# Altium footprint library Connector_Samtec_HLE_SMD.PcbLib: 290 footprints (part 18 of 24)
Each footprint in its own frame and in the unit in brackets; x right, y up, seen from the top. Pads: shape width x height; smd on the part's side, far side on the other; paste and mask are expansions set on the pad; w line width, h text height; cw(c..) or ccw(c..) is an arc to the next point about the centre after c.
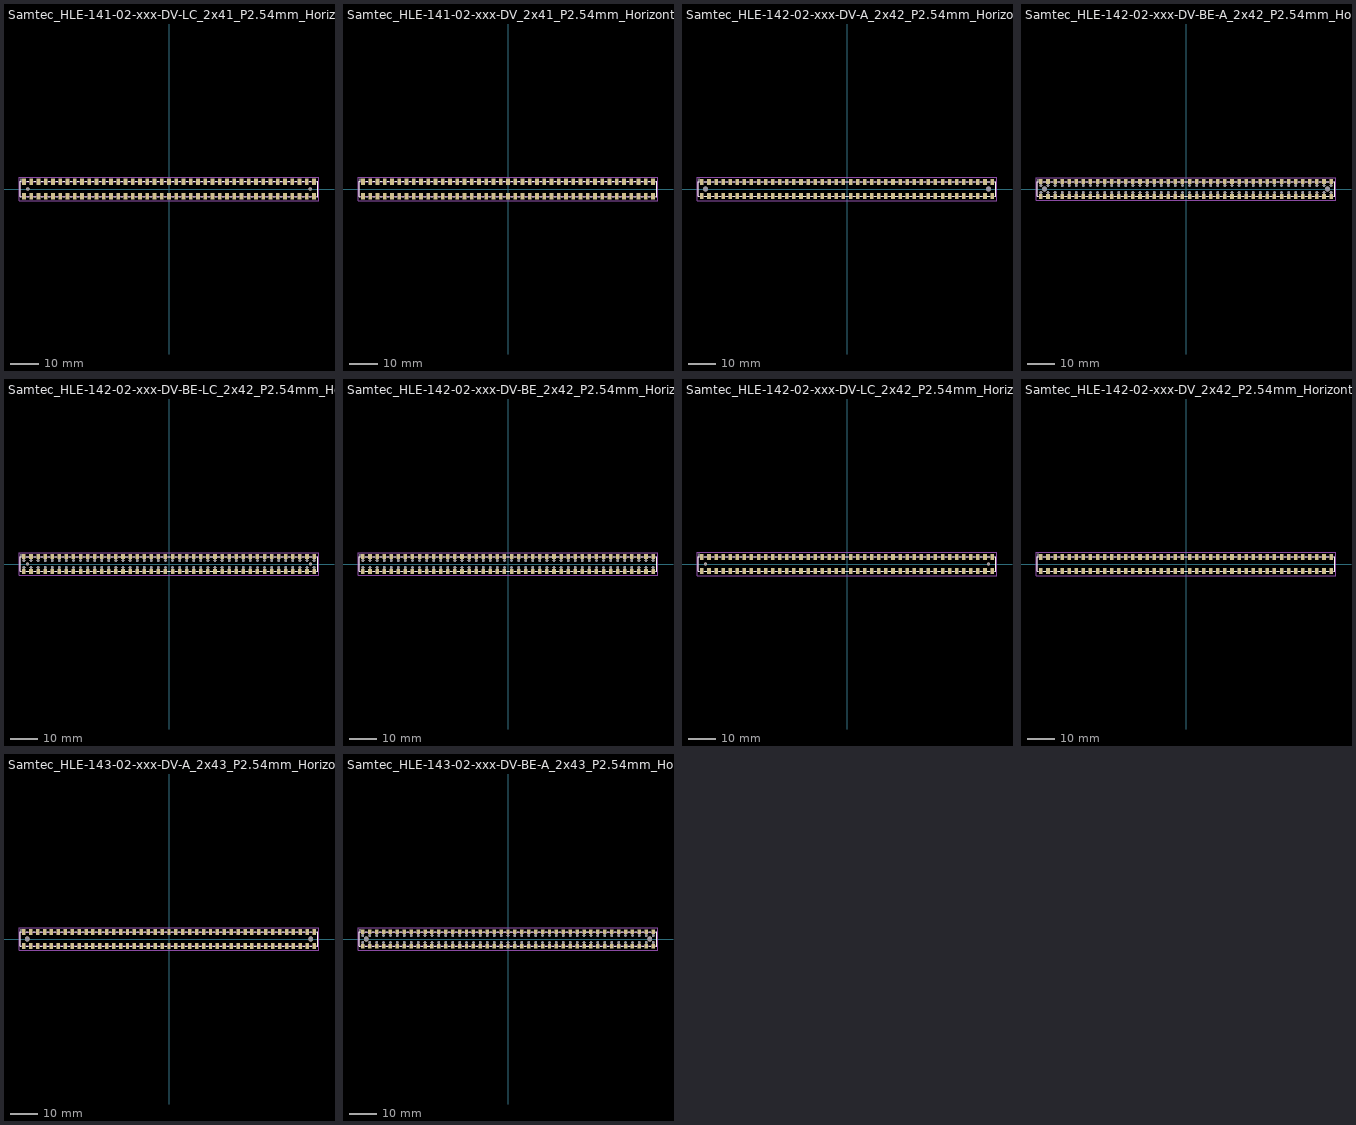
[diagram p17: the footprints below, top view; thin cyan lines are the x and y axes]

## Samtec_HLE-141-02-xxx-DV-LC_2x41_P2.54mm_Horizontal [mm]
pads (84):
  rect 1.27x2.29 smd: 1(-50.8,2.525) 2(-50.8,-2.525) 3(-48.26,2.525) 4(-48.26,-2.525) 5(-45.72,2.525) 6(-45.72,-2.525) 7(-43.18,2.525) 8(-43.18,-2.525) 9(-40.64,2.525) 10(-40.64,-2.525) 11(-38.1,2.525) 12(-38.1,-2.525) 13(-35.56,2.525) 14(-35.56,-2.525) 15(-33.02,2.525) 16(-33.02,-2.525) 17(-30.48,2.525) 18(-30.48,-2.525) 19(-27.94,2.525) 20(-27.94,-2.525) 21(-25.4,2.525) 22(-25.4,-2.525) 23(-22.86,2.525) 24(-22.86,-2.525) 25(-20.32,2.525) 26(-20.32,-2.525) 27(-17.78,2.525) 28(-17.78,-2.525) 29(-15.24,2.525) 30(-15.24,-2.525) 31(-12.7,2.525) 32(-12.7,-2.525) 33(-10.16,2.525) 34(-10.16,-2.525) 35(-7.62,2.525) 36(-7.62,-2.525) 37(-5.08,2.525) 38(-5.08,-2.525) 39(-2.54,2.525) 40(-2.54,-2.525) 41(0,2.525) 42(0,-2.525) 43(2.54,2.525) 44(2.54,-2.525) 45(5.08,2.525) 46(5.08,-2.525) 47(7.62,2.525) 48(7.62,-2.525) 49(10.16,2.525) 50(10.16,-2.525) 51(12.7,2.525) 52(12.7,-2.525) 53(15.24,2.525) 54(15.24,-2.525) 55(17.78,2.525) 56(17.78,-2.525) 57(20.32,2.525) 58(20.32,-2.525) 59(22.86,2.525) 60(22.86,-2.525) 61(25.4,2.525) 62(25.4,-2.525) 63(27.94,2.525) 64(27.94,-2.525) 65(30.48,2.525) 66(30.48,-2.525) 67(33.02,2.525) 68(33.02,-2.525) 69(35.56,2.525) 70(35.56,-2.525) 71(38.1,2.525) 72(38.1,-2.525) 73(40.64,2.525) 74(40.64,-2.525) 75(43.18,2.525) 76(43.18,-2.525) 77(45.72,2.525) 78(45.72,-2.525) 79(48.26,2.525) 80(48.26,-2.525) 81(50.8,2.525) 82(50.8,-2.525)
  round 1.19 hole 1.19: Un1(-49.53,0) Un2(49.53,0)
F.SilkS:
  lines w0.254: -51.695,-2.65 -52.18,-2.65 -52.18,2.65 -51.695,2.65 -51.695,3.67 ; -49.905,-2.65 -49.155,-2.65 ; -49.905,2.65 -49.155,2.65 ; -47.365,-2.65 -46.615,-2.65 ; -47.365,2.65 -46.615,2.65 ; -44.825,-2.65 -44.075,-2.65 ; -44.825,2.65 -44.075,2.65 ; -42.285,-2.65 -41.535,-2.65 ; -42.285,2.65 -41.535,2.65 ; -39.745,-2.65 -38.995,-2.65 ; -39.745,2.65 -38.995,2.65 ; -37.205,-2.65 -36.455,-2.65 ; -37.205,2.65 -36.455,2.65 ; -34.665,-2.65 -33.915,-2.65 ; -34.665,2.65 -33.915,2.65 ; -32.125,-2.65 -31.375,-2.65 ; -32.125,2.65 -31.375,2.65 ; -29.585,-2.65 -28.835,-2.65 ; -29.585,2.65 -28.835,2.65 ; -27.045,-2.65 -26.295,-2.65 ; -27.045,2.65 -26.295,2.65 ; -24.505,-2.65 -23.755,-2.65 ; -24.505,2.65 -23.755,2.65 ; -21.965,-2.65 -21.215,-2.65 ; -21.965,2.65 -21.215,2.65 ; -19.425,-2.65 -18.675,-2.65 ; -19.425,2.65 -18.675,2.65 ; -16.885,-2.65 -16.135,-2.65 ; -16.885,2.65 -16.135,2.65 ; -14.345,-2.65 -13.595,-2.65 ; -14.345,2.65 -13.595,2.65 ; -11.805,-2.65 -11.055,-2.65 ; -11.805,2.65 -11.055,2.65 ; -9.265,-2.65 -8.515,-2.65 ; -9.265,2.65 -8.515,2.65 ; -6.725,-2.65 -5.975,-2.65 ; -6.725,2.65 -5.975,2.65 ; -4.185,-2.65 -3.435,-2.65 ; -4.185,2.65 -3.435,2.65 ; -1.645,-2.65 -0.895,-2.65 ; -1.645,2.65 -0.895,2.65 ; 0.895,-2.65 1.645,-2.65 ; 0.895,2.65 1.645,2.65 ; 3.435,-2.65 4.185,-2.65 ; 3.435,2.65 4.185,2.65 ; 5.975,-2.65 6.725,-2.65 ; 5.975,2.65 6.725,2.65 ; 8.515,-2.65 9.265,-2.65 ; 8.515,2.65 9.265,2.65 ; 11.055,-2.65 11.805,-2.65 ; 11.055,2.65 11.805,2.65 ; 13.595,-2.65 14.345,-2.65 ; 13.595,2.65 14.345,2.65 ; 16.135,-2.65 16.885,-2.65 ; 16.135,2.65 16.885,2.65 ; 18.675,-2.65 19.425,-2.65 ; 18.675,2.65 19.425,2.65 ; 21.215,-2.65 21.965,-2.65 ; 21.215,2.65 21.965,2.65 ; 23.755,-2.65 24.505,-2.65 ; 23.755,2.65 24.505,2.65 ; 26.295,-2.65 27.045,-2.65 ; 26.295,2.65 27.045,2.65 ; 28.835,-2.65 29.585,-2.65 ; 28.835,2.65 29.585,2.65 ; 31.375,-2.65 32.125,-2.65 ; 31.375,2.65 32.125,2.65 ; 33.915,-2.65 34.665,-2.65 ; 33.915,2.65 34.665,2.65 ; 36.455,-2.65 37.205,-2.65 ; 36.455,2.65 37.205,2.65 ; 38.995,-2.65 39.745,-2.65 ; 38.995,2.65 39.745,2.65 ; 41.535,-2.65 42.285,-2.65 ; 41.535,2.65 42.285,2.65 ; 44.075,-2.65 44.825,-2.65 ; 44.075,2.65 44.825,2.65 ; 46.615,-2.65 47.365,-2.65 ; 46.615,2.65 47.365,2.65 ; 49.155,-2.65 49.905,-2.65 ; 49.155,2.65 49.905,2.65 ; 51.695,-2.65 52.18,-2.65 52.18,2.65 51.695,2.65
Top Assembly:
  lines w0.254: -51.3,2.54 -50.8,1.833 -50.3,2.54 ; -52.07,-2.54 52.07,-2.54 52.07,2.54 -52.07,2.54 -52.07,-2.54
  text "'.Designator'" at -4.047,-2.68 h1
Top Courtyard:
  lines w0.254: -52.57,-4.17 52.57,-4.17 52.57,4.17 -52.57,4.17 -52.57,-4.17
Top Designator:
  text ".Designator" at -7.618,-0.508 h1.52

## Samtec_HLE-141-02-xxx-DV_2x41_P2.54mm_Horizontal [mm]
pads (82):
  rect 1.27x2.29 smd: 1(-50.8,2.525) 2(-50.8,-2.525) 3(-48.26,2.525) 4(-48.26,-2.525) 5(-45.72,2.525) 6(-45.72,-2.525) 7(-43.18,2.525) 8(-43.18,-2.525) 9(-40.64,2.525) 10(-40.64,-2.525) 11(-38.1,2.525) 12(-38.1,-2.525) 13(-35.56,2.525) 14(-35.56,-2.525) 15(-33.02,2.525) 16(-33.02,-2.525) 17(-30.48,2.525) 18(-30.48,-2.525) 19(-27.94,2.525) 20(-27.94,-2.525) 21(-25.4,2.525) 22(-25.4,-2.525) 23(-22.86,2.525) 24(-22.86,-2.525) 25(-20.32,2.525) 26(-20.32,-2.525) 27(-17.78,2.525) 28(-17.78,-2.525) 29(-15.24,2.525) 30(-15.24,-2.525) 31(-12.7,2.525) 32(-12.7,-2.525) 33(-10.16,2.525) 34(-10.16,-2.525) 35(-7.62,2.525) 36(-7.62,-2.525) 37(-5.08,2.525) 38(-5.08,-2.525) 39(-2.54,2.525) 40(-2.54,-2.525) 41(0,2.525) 42(0,-2.525) 43(2.54,2.525) 44(2.54,-2.525) 45(5.08,2.525) 46(5.08,-2.525) 47(7.62,2.525) 48(7.62,-2.525) 49(10.16,2.525) 50(10.16,-2.525) 51(12.7,2.525) 52(12.7,-2.525) 53(15.24,2.525) 54(15.24,-2.525) 55(17.78,2.525) 56(17.78,-2.525) 57(20.32,2.525) 58(20.32,-2.525) 59(22.86,2.525) 60(22.86,-2.525) 61(25.4,2.525) 62(25.4,-2.525) 63(27.94,2.525) 64(27.94,-2.525) 65(30.48,2.525) 66(30.48,-2.525) 67(33.02,2.525) 68(33.02,-2.525) 69(35.56,2.525) 70(35.56,-2.525) 71(38.1,2.525) 72(38.1,-2.525) 73(40.64,2.525) 74(40.64,-2.525) 75(43.18,2.525) 76(43.18,-2.525) 77(45.72,2.525) 78(45.72,-2.525) 79(48.26,2.525) 80(48.26,-2.525) 81(50.8,2.525) 82(50.8,-2.525)
F.SilkS:
  lines w0.254: -51.695,-2.65 -52.18,-2.65 -52.18,2.65 -51.695,2.65 -51.695,3.67 ; -49.905,-2.65 -49.155,-2.65 ; -49.905,2.65 -49.155,2.65 ; -47.365,-2.65 -46.615,-2.65 ; -47.365,2.65 -46.615,2.65 ; -44.825,-2.65 -44.075,-2.65 ; -44.825,2.65 -44.075,2.65 ; -42.285,-2.65 -41.535,-2.65 ; -42.285,2.65 -41.535,2.65 ; -39.745,-2.65 -38.995,-2.65 ; -39.745,2.65 -38.995,2.65 ; -37.205,-2.65 -36.455,-2.65 ; -37.205,2.65 -36.455,2.65 ; -34.665,-2.65 -33.915,-2.65 ; -34.665,2.65 -33.915,2.65 ; -32.125,-2.65 -31.375,-2.65 ; -32.125,2.65 -31.375,2.65 ; -29.585,-2.65 -28.835,-2.65 ; -29.585,2.65 -28.835,2.65 ; -27.045,-2.65 -26.295,-2.65 ; -27.045,2.65 -26.295,2.65 ; -24.505,-2.65 -23.755,-2.65 ; -24.505,2.65 -23.755,2.65 ; -21.965,-2.65 -21.215,-2.65 ; -21.965,2.65 -21.215,2.65 ; -19.425,-2.65 -18.675,-2.65 ; -19.425,2.65 -18.675,2.65 ; -16.885,-2.65 -16.135,-2.65 ; -16.885,2.65 -16.135,2.65 ; -14.345,-2.65 -13.595,-2.65 ; -14.345,2.65 -13.595,2.65 ; -11.805,-2.65 -11.055,-2.65 ; -11.805,2.65 -11.055,2.65 ; -9.265,-2.65 -8.515,-2.65 ; -9.265,2.65 -8.515,2.65 ; -6.725,-2.65 -5.975,-2.65 ; -6.725,2.65 -5.975,2.65 ; -4.185,-2.65 -3.435,-2.65 ; -4.185,2.65 -3.435,2.65 ; -1.645,-2.65 -0.895,-2.65 ; -1.645,2.65 -0.895,2.65 ; 0.895,-2.65 1.645,-2.65 ; 0.895,2.65 1.645,2.65 ; 3.435,-2.65 4.185,-2.65 ; 3.435,2.65 4.185,2.65 ; 5.975,-2.65 6.725,-2.65 ; 5.975,2.65 6.725,2.65 ; 8.515,-2.65 9.265,-2.65 ; 8.515,2.65 9.265,2.65 ; 11.055,-2.65 11.805,-2.65 ; 11.055,2.65 11.805,2.65 ; 13.595,-2.65 14.345,-2.65 ; 13.595,2.65 14.345,2.65 ; 16.135,-2.65 16.885,-2.65 ; 16.135,2.65 16.885,2.65 ; 18.675,-2.65 19.425,-2.65 ; 18.675,2.65 19.425,2.65 ; 21.215,-2.65 21.965,-2.65 ; 21.215,2.65 21.965,2.65 ; 23.755,-2.65 24.505,-2.65 ; 23.755,2.65 24.505,2.65 ; 26.295,-2.65 27.045,-2.65 ; 26.295,2.65 27.045,2.65 ; 28.835,-2.65 29.585,-2.65 ; 28.835,2.65 29.585,2.65 ; 31.375,-2.65 32.125,-2.65 ; 31.375,2.65 32.125,2.65 ; 33.915,-2.65 34.665,-2.65 ; 33.915,2.65 34.665,2.65 ; 36.455,-2.65 37.205,-2.65 ; 36.455,2.65 37.205,2.65 ; 38.995,-2.65 39.745,-2.65 ; 38.995,2.65 39.745,2.65 ; 41.535,-2.65 42.285,-2.65 ; 41.535,2.65 42.285,2.65 ; 44.075,-2.65 44.825,-2.65 ; 44.075,2.65 44.825,2.65 ; 46.615,-2.65 47.365,-2.65 ; 46.615,2.65 47.365,2.65 ; 49.155,-2.65 49.905,-2.65 ; 49.155,2.65 49.905,2.65 ; 51.695,-2.65 52.18,-2.65 52.18,2.65 51.695,2.65
Top Assembly:
  lines w0.254: -51.3,2.54 -50.8,1.833 -50.3,2.54 ; -52.07,-2.54 52.07,-2.54 52.07,2.54 -52.07,2.54 -52.07,-2.54
  text "'.Designator'" at -4.047,-2.68 h1
Top Courtyard:
  lines w0.254: -52.57,-4.17 52.57,-4.17 52.57,4.17 -52.57,4.17 -52.57,-4.17
Top Designator:
  text ".Designator" at -7.618,-0.508 h1.52

## Samtec_HLE-142-02-xxx-DV-A_2x42_P2.54mm_Horizontal [mm]
pads (86):
  rect 1.27x2.29 smd: 1(-52.07,2.525) 2(-52.07,-2.525) 3(-49.53,2.525) 4(-49.53,-2.525) 5(-46.99,2.525) 6(-46.99,-2.525) 7(-44.45,2.525) 8(-44.45,-2.525) 9(-41.91,2.525) 10(-41.91,-2.525) 11(-39.37,2.525) 12(-39.37,-2.525) 13(-36.83,2.525) 14(-36.83,-2.525) 15(-34.29,2.525) 16(-34.29,-2.525) 17(-31.75,2.525) 18(-31.75,-2.525) 19(-29.21,2.525) 20(-29.21,-2.525) 21(-26.67,2.525) 22(-26.67,-2.525) 23(-24.13,2.525) 24(-24.13,-2.525) 25(-21.59,2.525) 26(-21.59,-2.525) 27(-19.05,2.525) 28(-19.05,-2.525) 29(-16.51,2.525) 30(-16.51,-2.525) 31(-13.97,2.525) 32(-13.97,-2.525) 33(-11.43,2.525) 34(-11.43,-2.525) 35(-8.89,2.525) 36(-8.89,-2.525) 37(-6.35,2.525) 38(-6.35,-2.525) 39(-3.81,2.525) 40(-3.81,-2.525) 41(-1.27,2.525) 42(-1.27,-2.525) 43(1.27,2.525) 44(1.27,-2.525) 45(3.81,2.525) 46(3.81,-2.525) 47(6.35,2.525) 48(6.35,-2.525) 49(8.89,2.525) 50(8.89,-2.525) 51(11.43,2.525) 52(11.43,-2.525) 53(13.97,2.525) 54(13.97,-2.525) 55(16.51,2.525) 56(16.51,-2.525) 57(19.05,2.525) 58(19.05,-2.525) 59(21.59,2.525) 60(21.59,-2.525) 61(24.13,2.525) 62(24.13,-2.525) 63(26.67,2.525) 64(26.67,-2.525) 65(29.21,2.525) 66(29.21,-2.525) 67(31.75,2.525) 68(31.75,-2.525) 69(34.29,2.525) 70(34.29,-2.525) 71(36.83,2.525) 72(36.83,-2.525) 73(39.37,2.525) 74(39.37,-2.525) 75(41.91,2.525) 76(41.91,-2.525) 77(44.45,2.525) 78(44.45,-2.525) 79(46.99,2.525) 80(46.99,-2.525) 81(49.53,2.525) 82(49.53,-2.525) 83(52.07,2.525) 84(52.07,-2.525)
  round 1.78 hole 1.78: Un1(-50.8,0) Un2(50.8,0)
F.SilkS:
  lines w0.254: -52.965,-2.65 -53.45,-2.65 -53.45,2.65 -52.965,2.65 -52.965,3.67 ; -51.175,-2.65 -50.425,-2.65 ; -51.175,2.65 -50.425,2.65 ; -48.635,-2.65 -47.885,-2.65 ; -48.635,2.65 -47.885,2.65 ; -46.095,-2.65 -45.345,-2.65 ; -46.095,2.65 -45.345,2.65 ; -43.555,-2.65 -42.805,-2.65 ; -43.555,2.65 -42.805,2.65 ; -41.015,-2.65 -40.265,-2.65 ; -41.015,2.65 -40.265,2.65 ; -38.475,-2.65 -37.725,-2.65 ; -38.475,2.65 -37.725,2.65 ; -35.935,-2.65 -35.185,-2.65 ; -35.935,2.65 -35.185,2.65 ; -33.395,-2.65 -32.645,-2.65 ; -33.395,2.65 -32.645,2.65 ; -30.855,-2.65 -30.105,-2.65 ; -30.855,2.65 -30.105,2.65 ; -28.315,-2.65 -27.565,-2.65 ; -28.315,2.65 -27.565,2.65 ; -25.775,-2.65 -25.025,-2.65 ; -25.775,2.65 -25.025,2.65 ; -23.235,-2.65 -22.485,-2.65 ; -23.235,2.65 -22.485,2.65 ; -20.695,-2.65 -19.945,-2.65 ; -20.695,2.65 -19.945,2.65 ; -18.155,-2.65 -17.405,-2.65 ; -18.155,2.65 -17.405,2.65 ; -15.615,-2.65 -14.865,-2.65 ; -15.615,2.65 -14.865,2.65 ; -13.075,-2.65 -12.325,-2.65 ; -13.075,2.65 -12.325,2.65 ; -10.535,-2.65 -9.785,-2.65 ; -10.535,2.65 -9.785,2.65 ; -7.995,-2.65 -7.245,-2.65 ; -7.995,2.65 -7.245,2.65 ; -5.455,-2.65 -4.705,-2.65 ; -5.455,2.65 -4.705,2.65 ; -2.915,-2.65 -2.165,-2.65 ; -2.915,2.65 -2.165,2.65 ; -0.375,-2.65 0.375,-2.65 ; -0.375,2.65 0.375,2.65 ; 2.165,-2.65 2.915,-2.65 ; 2.165,2.65 2.915,2.65 ; 4.705,-2.65 5.455,-2.65 ; 4.705,2.65 5.455,2.65 ; 7.245,-2.65 7.995,-2.65 ; 7.245,2.65 7.995,2.65 ; 9.785,-2.65 10.535,-2.65 ; 9.785,2.65 10.535,2.65 ; 12.325,-2.65 13.075,-2.65 ; 12.325,2.65 13.075,2.65 ; 14.865,-2.65 15.615,-2.65 ; 14.865,2.65 15.615,2.65 ; 17.405,-2.65 18.155,-2.65 ; 17.405,2.65 18.155,2.65 ; 19.945,-2.65 20.695,-2.65 ; 19.945,2.65 20.695,2.65 ; 22.485,-2.65 23.235,-2.65 ; 22.485,2.65 23.235,2.65 ; 25.025,-2.65 25.775,-2.65 ; 25.025,2.65 25.775,2.65 ; 27.565,-2.65 28.315,-2.65 ; 27.565,2.65 28.315,2.65 ; 30.105,-2.65 30.855,-2.65 ; 30.105,2.65 30.855,2.65 ; 32.645,-2.65 33.395,-2.65 ; 32.645,2.65 33.395,2.65 ; 35.185,-2.65 35.935,-2.65 ; 35.185,2.65 35.935,2.65 ; 37.725,-2.65 38.475,-2.65 ; 37.725,2.65 38.475,2.65 ; 40.265,-2.65 41.015,-2.65 ; 40.265,2.65 41.015,2.65 ; 42.805,-2.65 43.555,-2.65 ; 42.805,2.65 43.555,2.65 ; 45.345,-2.65 46.095,-2.65 ; 45.345,2.65 46.095,2.65 ; 47.885,-2.65 48.635,-2.65 ; 47.885,2.65 48.635,2.65 ; 50.425,-2.65 51.175,-2.65 ; 50.425,2.65 51.175,2.65 ; 52.965,-2.65 53.45,-2.65 53.45,2.65 52.965,2.65
Top Assembly:
  lines w0.254: -52.57,2.54 -52.07,1.833 -51.57,2.54 ; -53.34,-2.54 53.34,-2.54 53.34,2.54 -53.34,2.54 -53.34,-2.54
  text "'.Designator'" at -4.047,-2.68 h1
Top Courtyard:
  lines w0.254: -53.84,-4.17 53.84,-4.17 53.84,4.17 -53.84,4.17 -53.84,-4.17
Top Designator:
  text ".Designator" at -7.618,-0.508 h1.52

## Samtec_HLE-142-02-xxx-DV-BE-A_2x42_P2.54mm_Horizontal [mm]
pads (170):
  rect 1.27x1.68 smd: 1(-52.07,2.72) 2(-52.07,-2.72) 3(-49.53,2.72) 4(-49.53,-2.72) 5(-46.99,2.72) 6(-46.99,-2.72) 7(-44.45,2.72) 8(-44.45,-2.72) 9(-41.91,2.72) 10(-41.91,-2.72) 11(-39.37,2.72) 12(-39.37,-2.72) 13(-36.83,2.72) 14(-36.83,-2.72) 15(-34.29,2.72) 16(-34.29,-2.72) 17(-31.75,2.72) 18(-31.75,-2.72) 19(-29.21,2.72) 20(-29.21,-2.72) 21(-26.67,2.72) 22(-26.67,-2.72) 23(-24.13,2.72) 24(-24.13,-2.72) 25(-21.59,2.72) 26(-21.59,-2.72) 27(-19.05,2.72) 28(-19.05,-2.72) 29(-16.51,2.72) 30(-16.51,-2.72) 31(-13.97,2.72) 32(-13.97,-2.72) 33(-11.43,2.72) 34(-11.43,-2.72) 35(-8.89,2.72) 36(-8.89,-2.72) 37(-6.35,2.72) 38(-6.35,-2.72) 39(-3.81,2.72) 40(-3.81,-2.72) 41(-1.27,2.72) 42(-1.27,-2.72) 43(1.27,2.72) 44(1.27,-2.72) 45(3.81,2.72) 46(3.81,-2.72) 47(6.35,2.72) 48(6.35,-2.72) 49(8.89,2.72) 50(8.89,-2.72) 51(11.43,2.72) 52(11.43,-2.72) 53(13.97,2.72) 54(13.97,-2.72) 55(16.51,2.72) 56(16.51,-2.72) 57(19.05,2.72) 58(19.05,-2.72) 59(21.59,2.72) 60(21.59,-2.72) 61(24.13,2.72) 62(24.13,-2.72) 63(26.67,2.72) 64(26.67,-2.72) 65(29.21,2.72) 66(29.21,-2.72) 67(31.75,2.72) 68(31.75,-2.72) 69(34.29,2.72) 70(34.29,-2.72) 71(36.83,2.72) 72(36.83,-2.72) 73(39.37,2.72) 74(39.37,-2.72) 75(41.91,2.72) 76(41.91,-2.72) 77(44.45,2.72) 78(44.45,-2.72) 79(46.99,2.72) 80(46.99,-2.72) 81(49.53,2.72) 82(49.53,-2.72) 83(52.07,2.72) 84(52.07,-2.72)
  round 0.97 hole 0.97: Un1(-52.07,1.27) Un2(-52.07,-1.27) Un4(-49.53,1.27) Un5(-49.53,-1.27) Un6(-46.99,1.27) Un7(-46.99,-1.27) Un8(-44.45,1.27) Un9(-44.45,-1.27) Un10(-41.91,1.27) Un11(-41.91,-1.27) Un12(-39.37,1.27) Un13(-39.37,-1.27) Un14(-36.83,1.27) Un15(-36.83,-1.27) Un16(-34.29,1.27) Un17(-34.29,-1.27) Un18(-31.75,1.27) Un19(-31.75,-1.27) Un20(-29.21,1.27) Un21(-29.21,-1.27) Un22(-26.67,1.27) Un23(-26.67,-1.27) Un24(-24.13,1.27) Un25(-24.13,-1.27) Un26(-21.59,1.27) Un27(-21.59,-1.27) Un28(-19.05,1.27) Un29(-19.05,-1.27) Un30(-16.51,1.27) Un31(-16.51,-1.27) Un32(-13.97,1.27) Un33(-13.97,-1.27) Un34(-11.43,1.27) Un35(-11.43,-1.27) Un36(-8.89,1.27) Un37(-8.89,-1.27) Un38(-6.35,1.27) Un39(-6.35,-1.27) Un40(-3.81,1.27) Un41(-3.81,-1.27) Un42(-1.27,1.27) Un43(-1.27,-1.27) Un44(1.27,1.27) Un45(1.27,-1.27) Un46(3.81,1.27) Un47(3.81,-1.27) Un48(6.35,1.27) Un49(6.35,-1.27) Un50(8.89,1.27) Un51(8.89,-1.27) Un52(11.43,1.27) Un53(11.43,-1.27) Un54(13.97,1.27) Un55(13.97,-1.27) Un56(16.51,1.27) Un57(16.51,-1.27) Un58(19.05,1.27) Un59(19.05,-1.27) Un60(21.59,1.27) Un61(21.59,-1.27) Un62(24.13,1.27) Un63(24.13,-1.27) Un64(26.67,1.27) Un65(26.67,-1.27) Un66(29.21,1.27) Un67(29.21,-1.27) Un68(31.75,1.27) Un69(31.75,-1.27) Un70(34.29,1.27) Un71(34.29,-1.27) Un72(36.83,1.27) Un73(36.83,-1.27) Un74(39.37,1.27) Un75(39.37,-1.27) Un76(41.91,1.27) Un77(41.91,-1.27) Un78(44.45,1.27) Un79(44.45,-1.27) Un80(46.99,1.27) Un81(46.99,-1.27) Un82(49.53,1.27) Un83(49.53,-1.27) Un85(52.07,1.27) Un86(52.07,-1.27)
  round 1.78 hole 1.78: Un3(-50.8,0) Un84(50.8,0)
F.SilkS:
  lines w0.254: -52.965,-2.65 -53.45,-2.65 -53.45,2.65 -52.965,2.65 -52.965,3.56 ; -51.175,-2.65 -50.425,-2.65 ; -51.175,2.65 -50.425,2.65 ; -48.635,-2.65 -47.885,-2.65 ; -48.635,2.65 -47.885,2.65 ; -46.095,-2.65 -45.345,-2.65 ; -46.095,2.65 -45.345,2.65 ; -43.555,-2.65 -42.805,-2.65 ; -43.555,2.65 -42.805,2.65 ; -41.015,-2.65 -40.265,-2.65 ; -41.015,2.65 -40.265,2.65 ; -38.475,-2.65 -37.725,-2.65 ; -38.475,2.65 -37.725,2.65 ; -35.935,-2.65 -35.185,-2.65 ; -35.935,2.65 -35.185,2.65 ; -33.395,-2.65 -32.645,-2.65 ; -33.395,2.65 -32.645,2.65 ; -30.855,-2.65 -30.105,-2.65 ; -30.855,2.65 -30.105,2.65 ; -28.315,-2.65 -27.565,-2.65 ; -28.315,2.65 -27.565,2.65 ; -25.775,-2.65 -25.025,-2.65 ; -25.775,2.65 -25.025,2.65 ; -23.235,-2.65 -22.485,-2.65 ; -23.235,2.65 -22.485,2.65 ; -20.695,-2.65 -19.945,-2.65 ; -20.695,2.65 -19.945,2.65 ; -18.155,-2.65 -17.405,-2.65 ; -18.155,2.65 -17.405,2.65 ; -15.615,-2.65 -14.865,-2.65 ; -15.615,2.65 -14.865,2.65 ; -13.075,-2.65 -12.325,-2.65 ; -13.075,2.65 -12.325,2.65 ; -10.535,-2.65 -9.785,-2.65 ; -10.535,2.65 -9.785,2.65 ; -7.995,-2.65 -7.245,-2.65 ; -7.995,2.65 -7.245,2.65 ; -5.455,-2.65 -4.705,-2.65 ; -5.455,2.65 -4.705,2.65 ; -2.915,-2.65 -2.165,-2.65 ; -2.915,2.65 -2.165,2.65 ; -0.375,-2.65 0.375,-2.65 ; -0.375,2.65 0.375,2.65 ; 2.165,-2.65 2.915,-2.65 ; 2.165,2.65 2.915,2.65 ; 4.705,-2.65 5.455,-2.65 ; 4.705,2.65 5.455,2.65 ; 7.245,-2.65 7.995,-2.65 ; 7.245,2.65 7.995,2.65 ; 9.785,-2.65 10.535,-2.65 ; 9.785,2.65 10.535,2.65 ; 12.325,-2.65 13.075,-2.65 ; 12.325,2.65 13.075,2.65 ; 14.865,-2.65 15.615,-2.65 ; 14.865,2.65 15.615,2.65 ; 17.405,-2.65 18.155,-2.65 ; 17.405,2.65 18.155,2.65 ; 19.945,-2.65 20.695,-2.65 ; 19.945,2.65 20.695,2.65 ; 22.485,-2.65 23.235,-2.65 ; 22.485,2.65 23.235,2.65 ; 25.025,-2.65 25.775,-2.65 ; 25.025,2.65 25.775,2.65 ; 27.565,-2.65 28.315,-2.65 ; 27.565,2.65 28.315,2.65 ; 30.105,-2.65 30.855,-2.65 ; 30.105,2.65 30.855,2.65 ; 32.645,-2.65 33.395,-2.65 ; 32.645,2.65 33.395,2.65 ; 35.185,-2.65 35.935,-2.65 ; 35.185,2.65 35.935,2.65 ; 37.725,-2.65 38.475,-2.65 ; 37.725,2.65 38.475,2.65 ; 40.265,-2.65 41.015,-2.65 ; 40.265,2.65 41.015,2.65 ; 42.805,-2.65 43.555,-2.65 ; 42.805,2.65 43.555,2.65 ; 45.345,-2.65 46.095,-2.65 ; 45.345,2.65 46.095,2.65 ; 47.885,-2.65 48.635,-2.65 ; 47.885,2.65 48.635,2.65 ; 50.425,-2.65 51.175,-2.65 ; 50.425,2.65 51.175,2.65 ; 52.965,-2.65 53.45,-2.65 53.45,2.65 52.965,2.65
Top Assembly:
  lines w0.254: -52.57,2.54 -52.07,1.833 -51.57,2.54 ; -53.34,-2.54 53.34,-2.54 53.34,2.54 -53.34,2.54 -53.34,-2.54
  text "'.Designator'" at -4.047,-2.68 h1
Top Courtyard:
  lines w0.254: -53.84,-4.07 53.84,-4.07 53.84,4.07 -53.84,4.07 -53.84,-4.07
Top Designator:
  text ".Designator" at -7.618,-0.508 h1.52

## Samtec_HLE-142-02-xxx-DV-BE-LC_2x42_P2.54mm_Horizontal [mm]
pads (170):
  rect 1.27x1.68 smd: 1(-52.07,2.72) 2(-52.07,-2.72) 3(-49.53,2.72) 4(-49.53,-2.72) 5(-46.99,2.72) 6(-46.99,-2.72) 7(-44.45,2.72) 8(-44.45,-2.72) 9(-41.91,2.72) 10(-41.91,-2.72) 11(-39.37,2.72) 12(-39.37,-2.72) 13(-36.83,2.72) 14(-36.83,-2.72) 15(-34.29,2.72) 16(-34.29,-2.72) 17(-31.75,2.72) 18(-31.75,-2.72) 19(-29.21,2.72) 20(-29.21,-2.72) 21(-26.67,2.72) 22(-26.67,-2.72) 23(-24.13,2.72) 24(-24.13,-2.72) 25(-21.59,2.72) 26(-21.59,-2.72) 27(-19.05,2.72) 28(-19.05,-2.72) 29(-16.51,2.72) 30(-16.51,-2.72) 31(-13.97,2.72) 32(-13.97,-2.72) 33(-11.43,2.72) 34(-11.43,-2.72) 35(-8.89,2.72) 36(-8.89,-2.72) 37(-6.35,2.72) 38(-6.35,-2.72) 39(-3.81,2.72) 40(-3.81,-2.72) 41(-1.27,2.72) 42(-1.27,-2.72) 43(1.27,2.72) 44(1.27,-2.72) 45(3.81,2.72) 46(3.81,-2.72) 47(6.35,2.72) 48(6.35,-2.72) 49(8.89,2.72) 50(8.89,-2.72) 51(11.43,2.72) 52(11.43,-2.72) 53(13.97,2.72) 54(13.97,-2.72) 55(16.51,2.72) 56(16.51,-2.72) 57(19.05,2.72) 58(19.05,-2.72) 59(21.59,2.72) 60(21.59,-2.72) 61(24.13,2.72) 62(24.13,-2.72) 63(26.67,2.72) 64(26.67,-2.72) 65(29.21,2.72) 66(29.21,-2.72) 67(31.75,2.72) 68(31.75,-2.72) 69(34.29,2.72) 70(34.29,-2.72) 71(36.83,2.72) 72(36.83,-2.72) 73(39.37,2.72) 74(39.37,-2.72) 75(41.91,2.72) 76(41.91,-2.72) 77(44.45,2.72) 78(44.45,-2.72) 79(46.99,2.72) 80(46.99,-2.72) 81(49.53,2.72) 82(49.53,-2.72) 83(52.07,2.72) 84(52.07,-2.72)
  round 0.97 hole 0.97: Un1(-52.07,1.27) Un2(-52.07,-1.27) Un4(-49.53,1.27) Un5(-49.53,-1.27) Un6(-46.99,1.27) Un7(-46.99,-1.27) Un8(-44.45,1.27) Un9(-44.45,-1.27) Un10(-41.91,1.27) Un11(-41.91,-1.27) Un12(-39.37,1.27) Un13(-39.37,-1.27) Un14(-36.83,1.27) Un15(-36.83,-1.27) Un16(-34.29,1.27) Un17(-34.29,-1.27) Un18(-31.75,1.27) Un19(-31.75,-1.27) Un20(-29.21,1.27) Un21(-29.21,-1.27) Un22(-26.67,1.27) Un23(-26.67,-1.27) Un24(-24.13,1.27) Un25(-24.13,-1.27) Un26(-21.59,1.27) Un27(-21.59,-1.27) Un28(-19.05,1.27) Un29(-19.05,-1.27) Un30(-16.51,1.27) Un31(-16.51,-1.27) Un32(-13.97,1.27) Un33(-13.97,-1.27) Un34(-11.43,1.27) Un35(-11.43,-1.27) Un36(-8.89,1.27) Un37(-8.89,-1.27) Un38(-6.35,1.27) Un39(-6.35,-1.27) Un40(-3.81,1.27) Un41(-3.81,-1.27) Un42(-1.27,1.27) Un43(-1.27,-1.27) Un44(1.27,1.27) Un45(1.27,-1.27) Un46(3.81,1.27) Un47(3.81,-1.27) Un48(6.35,1.27) Un49(6.35,-1.27) Un50(8.89,1.27) Un51(8.89,-1.27) Un52(11.43,1.27) Un53(11.43,-1.27) Un54(13.97,1.27) Un55(13.97,-1.27) Un56(16.51,1.27) Un57(16.51,-1.27) Un58(19.05,1.27) Un59(19.05,-1.27) Un60(21.59,1.27) Un61(21.59,-1.27) Un62(24.13,1.27) Un63(24.13,-1.27) Un64(26.67,1.27) Un65(26.67,-1.27) Un66(29.21,1.27) Un67(29.21,-1.27) Un68(31.75,1.27) Un69(31.75,-1.27) Un70(34.29,1.27) Un71(34.29,-1.27) Un72(36.83,1.27) Un73(36.83,-1.27) Un74(39.37,1.27) Un75(39.37,-1.27) Un76(41.91,1.27) Un77(41.91,-1.27) Un78(44.45,1.27) Un79(44.45,-1.27) Un80(46.99,1.27) Un81(46.99,-1.27) Un82(49.53,1.27) Un83(49.53,-1.27) Un85(52.07,1.27) Un86(52.07,-1.27)
  round 1.19 hole 1.19: Un3(-50.8,0) Un84(50.8,0)
F.SilkS:
  lines w0.254: -52.965,-2.65 -53.45,-2.65 -53.45,2.65 -52.965,2.65 -52.965,3.56 ; -51.175,-2.65 -50.425,-2.65 ; -51.175,2.65 -50.425,2.65 ; -48.635,-2.65 -47.885,-2.65 ; -48.635,2.65 -47.885,2.65 ; -46.095,-2.65 -45.345,-2.65 ; -46.095,2.65 -45.345,2.65 ; -43.555,-2.65 -42.805,-2.65 ; -43.555,2.65 -42.805,2.65 ; -41.015,-2.65 -40.265,-2.65 ; -41.015,2.65 -40.265,2.65 ; -38.475,-2.65 -37.725,-2.65 ; -38.475,2.65 -37.725,2.65 ; -35.935,-2.65 -35.185,-2.65 ; -35.935,2.65 -35.185,2.65 ; -33.395,-2.65 -32.645,-2.65 ; -33.395,2.65 -32.645,2.65 ; -30.855,-2.65 -30.105,-2.65 ; -30.855,2.65 -30.105,2.65 ; -28.315,-2.65 -27.565,-2.65 ; -28.315,2.65 -27.565,2.65 ; -25.775,-2.65 -25.025,-2.65 ; -25.775,2.65 -25.025,2.65 ; -23.235,-2.65 -22.485,-2.65 ; -23.235,2.65 -22.485,2.65 ; -20.695,-2.65 -19.945,-2.65 ; -20.695,2.65 -19.945,2.65 ; -18.155,-2.65 -17.405,-2.65 ; -18.155,2.65 -17.405,2.65 ; -15.615,-2.65 -14.865,-2.65 ; -15.615,2.65 -14.865,2.65 ; -13.075,-2.65 -12.325,-2.65 ; -13.075,2.65 -12.325,2.65 ; -10.535,-2.65 -9.785,-2.65 ; -10.535,2.65 -9.785,2.65 ; -7.995,-2.65 -7.245,-2.65 ; -7.995,2.65 -7.245,2.65 ; -5.455,-2.65 -4.705,-2.65 ; -5.455,2.65 -4.705,2.65 ; -2.915,-2.65 -2.165,-2.65 ; -2.915,2.65 -2.165,2.65 ; -0.375,-2.65 0.375,-2.65 ; -0.375,2.65 0.375,2.65 ; 2.165,-2.65 2.915,-2.65 ; 2.165,2.65 2.915,2.65 ; 4.705,-2.65 5.455,-2.65 ; 4.705,2.65 5.455,2.65 ; 7.245,-2.65 7.995,-2.65 ; 7.245,2.65 7.995,2.65 ; 9.785,-2.65 10.535,-2.65 ; 9.785,2.65 10.535,2.65 ; 12.325,-2.65 13.075,-2.65 ; 12.325,2.65 13.075,2.65 ; 14.865,-2.65 15.615,-2.65 ; 14.865,2.65 15.615,2.65 ; 17.405,-2.65 18.155,-2.65 ; 17.405,2.65 18.155,2.65 ; 19.945,-2.65 20.695,-2.65 ; 19.945,2.65 20.695,2.65 ; 22.485,-2.65 23.235,-2.65 ; 22.485,2.65 23.235,2.65 ; 25.025,-2.65 25.775,-2.65 ; 25.025,2.65 25.775,2.65 ; 27.565,-2.65 28.315,-2.65 ; 27.565,2.65 28.315,2.65 ; 30.105,-2.65 30.855,-2.65 ; 30.105,2.65 30.855,2.65 ; 32.645,-2.65 33.395,-2.65 ; 32.645,2.65 33.395,2.65 ; 35.185,-2.65 35.935,-2.65 ; 35.185,2.65 35.935,2.65 ; 37.725,-2.65 38.475,-2.65 ; 37.725,2.65 38.475,2.65 ; 40.265,-2.65 41.015,-2.65 ; 40.265,2.65 41.015,2.65 ; 42.805,-2.65 43.555,-2.65 ; 42.805,2.65 43.555,2.65 ; 45.345,-2.65 46.095,-2.65 ; 45.345,2.65 46.095,2.65 ; 47.885,-2.65 48.635,-2.65 ; 47.885,2.65 48.635,2.65 ; 50.425,-2.65 51.175,-2.65 ; 50.425,2.65 51.175,2.65 ; 52.965,-2.65 53.45,-2.65 53.45,2.65 52.965,2.65
Top Assembly:
  lines w0.254: -52.57,2.54 -52.07,1.833 -51.57,2.54 ; -53.34,-2.54 53.34,-2.54 53.34,2.54 -53.34,2.54 -53.34,-2.54
  text "'.Designator'" at -4.047,-2.68 h1
Top Courtyard:
  lines w0.254: -53.84,-4.07 53.84,-4.07 53.84,4.07 -53.84,4.07 -53.84,-4.07
Top Designator:
  text ".Designator" at -7.618,-0.508 h1.52

## Samtec_HLE-142-02-xxx-DV-BE_2x42_P2.54mm_Horizontal [mm]
pads (168):
  rect 1.27x1.68 smd: 1(-52.07,2.72) 2(-52.07,-2.72) 3(-49.53,2.72) 4(-49.53,-2.72) 5(-46.99,2.72) 6(-46.99,-2.72) 7(-44.45,2.72) 8(-44.45,-2.72) 9(-41.91,2.72) 10(-41.91,-2.72) 11(-39.37,2.72) 12(-39.37,-2.72) 13(-36.83,2.72) 14(-36.83,-2.72) 15(-34.29,2.72) 16(-34.29,-2.72) 17(-31.75,2.72) 18(-31.75,-2.72) 19(-29.21,2.72) 20(-29.21,-2.72) 21(-26.67,2.72) 22(-26.67,-2.72) 23(-24.13,2.72) 24(-24.13,-2.72) 25(-21.59,2.72) 26(-21.59,-2.72) 27(-19.05,2.72) 28(-19.05,-2.72) 29(-16.51,2.72) 30(-16.51,-2.72) 31(-13.97,2.72) 32(-13.97,-2.72) 33(-11.43,2.72) 34(-11.43,-2.72) 35(-8.89,2.72) 36(-8.89,-2.72) 37(-6.35,2.72) 38(-6.35,-2.72) 39(-3.81,2.72) 40(-3.81,-2.72) 41(-1.27,2.72) 42(-1.27,-2.72) 43(1.27,2.72) 44(1.27,-2.72) 45(3.81,2.72) 46(3.81,-2.72) 47(6.35,2.72) 48(6.35,-2.72) 49(8.89,2.72) 50(8.89,-2.72) 51(11.43,2.72) 52(11.43,-2.72) 53(13.97,2.72) 54(13.97,-2.72) 55(16.51,2.72) 56(16.51,-2.72) 57(19.05,2.72) 58(19.05,-2.72) 59(21.59,2.72) 60(21.59,-2.72) 61(24.13,2.72) 62(24.13,-2.72) 63(26.67,2.72) 64(26.67,-2.72) 65(29.21,2.72) 66(29.21,-2.72) 67(31.75,2.72) 68(31.75,-2.72) 69(34.29,2.72) 70(34.29,-2.72) 71(36.83,2.72) 72(36.83,-2.72) 73(39.37,2.72) 74(39.37,-2.72) 75(41.91,2.72) 76(41.91,-2.72) 77(44.45,2.72) 78(44.45,-2.72) 79(46.99,2.72) 80(46.99,-2.72) 81(49.53,2.72) 82(49.53,-2.72) 83(52.07,2.72) 84(52.07,-2.72)
  round 0.97 hole 0.97: Un1(-52.07,1.27) Un2(-52.07,-1.27) Un3(-49.53,1.27) Un4(-49.53,-1.27) Un5(-46.99,1.27) Un6(-46.99,-1.27) Un7(-44.45,1.27) Un8(-44.45,-1.27) Un9(-41.91,1.27) Un10(-41.91,-1.27) Un11(-39.37,1.27) Un12(-39.37,-1.27) Un13(-36.83,1.27) Un14(-36.83,-1.27) Un15(-34.29,1.27) Un16(-34.29,-1.27) Un17(-31.75,1.27) Un18(-31.75,-1.27) Un19(-29.21,1.27) Un20(-29.21,-1.27) Un21(-26.67,1.27) Un22(-26.67,-1.27) Un23(-24.13,1.27) Un24(-24.13,-1.27) Un25(-21.59,1.27) Un26(-21.59,-1.27) Un27(-19.05,1.27) Un28(-19.05,-1.27) Un29(-16.51,1.27) Un30(-16.51,-1.27) Un31(-13.97,1.27) Un32(-13.97,-1.27) Un33(-11.43,1.27) Un34(-11.43,-1.27) Un35(-8.89,1.27) Un36(-8.89,-1.27) Un37(-6.35,1.27) Un38(-6.35,-1.27) Un39(-3.81,1.27) Un40(-3.81,-1.27) Un41(-1.27,1.27) Un42(-1.27,-1.27) Un43(1.27,1.27) Un44(1.27,-1.27) Un45(3.81,1.27) Un46(3.81,-1.27) Un47(6.35,1.27) Un48(6.35,-1.27) Un49(8.89,1.27) Un50(8.89,-1.27) Un51(11.43,1.27) Un52(11.43,-1.27) Un53(13.97,1.27) Un54(13.97,-1.27) Un55(16.51,1.27) Un56(16.51,-1.27) Un57(19.05,1.27) Un58(19.05,-1.27) Un59(21.59,1.27) Un60(21.59,-1.27) Un61(24.13,1.27) Un62(24.13,-1.27) Un63(26.67,1.27) Un64(26.67,-1.27) Un65(29.21,1.27) Un66(29.21,-1.27) Un67(31.75,1.27) Un68(31.75,-1.27) Un69(34.29,1.27) Un70(34.29,-1.27) Un71(36.83,1.27) Un72(36.83,-1.27) Un73(39.37,1.27) Un74(39.37,-1.27) Un75(41.91,1.27) Un76(41.91,-1.27) Un77(44.45,1.27) Un78(44.45,-1.27) Un79(46.99,1.27) Un80(46.99,-1.27) Un81(49.53,1.27) Un82(49.53,-1.27) Un83(52.07,1.27) Un84(52.07,-1.27)
F.SilkS:
  lines w0.254: -52.965,-2.65 -53.45,-2.65 -53.45,2.65 -52.965,2.65 -52.965,3.56 ; -51.175,-2.65 -50.425,-2.65 ; -51.175,2.65 -50.425,2.65 ; -48.635,-2.65 -47.885,-2.65 ; -48.635,2.65 -47.885,2.65 ; -46.095,-2.65 -45.345,-2.65 ; -46.095,2.65 -45.345,2.65 ; -43.555,-2.65 -42.805,-2.65 ; -43.555,2.65 -42.805,2.65 ; -41.015,-2.65 -40.265,-2.65 ; -41.015,2.65 -40.265,2.65 ; -38.475,-2.65 -37.725,-2.65 ; -38.475,2.65 -37.725,2.65 ; -35.935,-2.65 -35.185,-2.65 ; -35.935,2.65 -35.185,2.65 ; -33.395,-2.65 -32.645,-2.65 ; -33.395,2.65 -32.645,2.65 ; -30.855,-2.65 -30.105,-2.65 ; -30.855,2.65 -30.105,2.65 ; -28.315,-2.65 -27.565,-2.65 ; -28.315,2.65 -27.565,2.65 ; -25.775,-2.65 -25.025,-2.65 ; -25.775,2.65 -25.025,2.65 ; -23.235,-2.65 -22.485,-2.65 ; -23.235,2.65 -22.485,2.65 ; -20.695,-2.65 -19.945,-2.65 ; -20.695,2.65 -19.945,2.65 ; -18.155,-2.65 -17.405,-2.65 ; -18.155,2.65 -17.405,2.65 ; -15.615,-2.65 -14.865,-2.65 ; -15.615,2.65 -14.865,2.65 ; -13.075,-2.65 -12.325,-2.65 ; -13.075,2.65 -12.325,2.65 ; -10.535,-2.65 -9.785,-2.65 ; -10.535,2.65 -9.785,2.65 ; -7.995,-2.65 -7.245,-2.65 ; -7.995,2.65 -7.245,2.65 ; -5.455,-2.65 -4.705,-2.65 ; -5.455,2.65 -4.705,2.65 ; -2.915,-2.65 -2.165,-2.65 ; -2.915,2.65 -2.165,2.65 ; -0.375,-2.65 0.375,-2.65 ; -0.375,2.65 0.375,2.65 ; 2.165,-2.65 2.915,-2.65 ; 2.165,2.65 2.915,2.65 ; 4.705,-2.65 5.455,-2.65 ; 4.705,2.65 5.455,2.65 ; 7.245,-2.65 7.995,-2.65 ; 7.245,2.65 7.995,2.65 ; 9.785,-2.65 10.535,-2.65 ; 9.785,2.65 10.535,2.65 ; 12.325,-2.65 13.075,-2.65 ; 12.325,2.65 13.075,2.65 ; 14.865,-2.65 15.615,-2.65 ; 14.865,2.65 15.615,2.65 ; 17.405,-2.65 18.155,-2.65 ; 17.405,2.65 18.155,2.65 ; 19.945,-2.65 20.695,-2.65 ; 19.945,2.65 20.695,2.65 ; 22.485,-2.65 23.235,-2.65 ; 22.485,2.65 23.235,2.65 ; 25.025,-2.65 25.775,-2.65 ; 25.025,2.65 25.775,2.65 ; 27.565,-2.65 28.315,-2.65 ; 27.565,2.65 28.315,2.65 ; 30.105,-2.65 30.855,-2.65 ; 30.105,2.65 30.855,2.65 ; 32.645,-2.65 33.395,-2.65 ; 32.645,2.65 33.395,2.65 ; 35.185,-2.65 35.935,-2.65 ; 35.185,2.65 35.935,2.65 ; 37.725,-2.65 38.475,-2.65 ; 37.725,2.65 38.475,2.65 ; 40.265,-2.65 41.015,-2.65 ; 40.265,2.65 41.015,2.65 ; 42.805,-2.65 43.555,-2.65 ; 42.805,2.65 43.555,2.65 ; 45.345,-2.65 46.095,-2.65 ; 45.345,2.65 46.095,2.65 ; 47.885,-2.65 48.635,-2.65 ; 47.885,2.65 48.635,2.65 ; 50.425,-2.65 51.175,-2.65 ; 50.425,2.65 51.175,2.65 ; 52.965,-2.65 53.45,-2.65 53.45,2.65 52.965,2.65
Top Assembly:
  lines w0.254: -52.57,2.54 -52.07,1.833 -51.57,2.54 ; -53.34,-2.54 53.34,-2.54 53.34,2.54 -53.34,2.54 -53.34,-2.54
  text "'.Designator'" at -4.047,-2.68 h1
Top Courtyard:
  lines w0.254: -53.84,-4.07 53.84,-4.07 53.84,4.07 -53.84,4.07 -53.84,-4.07
Top Designator:
  text ".Designator" at -7.618,-0.508 h1.52

## Samtec_HLE-142-02-xxx-DV-LC_2x42_P2.54mm_Horizontal [mm]
pads (86):
  rect 1.27x2.29 smd: 1(-52.07,2.525) 2(-52.07,-2.525) 3(-49.53,2.525) 4(-49.53,-2.525) 5(-46.99,2.525) 6(-46.99,-2.525) 7(-44.45,2.525) 8(-44.45,-2.525) 9(-41.91,2.525) 10(-41.91,-2.525) 11(-39.37,2.525) 12(-39.37,-2.525) 13(-36.83,2.525) 14(-36.83,-2.525) 15(-34.29,2.525) 16(-34.29,-2.525) 17(-31.75,2.525) 18(-31.75,-2.525) 19(-29.21,2.525) 20(-29.21,-2.525) 21(-26.67,2.525) 22(-26.67,-2.525) 23(-24.13,2.525) 24(-24.13,-2.525) 25(-21.59,2.525) 26(-21.59,-2.525) 27(-19.05,2.525) 28(-19.05,-2.525) 29(-16.51,2.525) 30(-16.51,-2.525) 31(-13.97,2.525) 32(-13.97,-2.525) 33(-11.43,2.525) 34(-11.43,-2.525) 35(-8.89,2.525) 36(-8.89,-2.525) 37(-6.35,2.525) 38(-6.35,-2.525) 39(-3.81,2.525) 40(-3.81,-2.525) 41(-1.27,2.525) 42(-1.27,-2.525) 43(1.27,2.525) 44(1.27,-2.525) 45(3.81,2.525) 46(3.81,-2.525) 47(6.35,2.525) 48(6.35,-2.525) 49(8.89,2.525) 50(8.89,-2.525) 51(11.43,2.525) 52(11.43,-2.525) 53(13.97,2.525) 54(13.97,-2.525) 55(16.51,2.525) 56(16.51,-2.525) 57(19.05,2.525) 58(19.05,-2.525) 59(21.59,2.525) 60(21.59,-2.525) 61(24.13,2.525) 62(24.13,-2.525) 63(26.67,2.525) 64(26.67,-2.525) 65(29.21,2.525) 66(29.21,-2.525) 67(31.75,2.525) 68(31.75,-2.525) 69(34.29,2.525) 70(34.29,-2.525) 71(36.83,2.525) 72(36.83,-2.525) 73(39.37,2.525) 74(39.37,-2.525) 75(41.91,2.525) 76(41.91,-2.525) 77(44.45,2.525) 78(44.45,-2.525) 79(46.99,2.525) 80(46.99,-2.525) 81(49.53,2.525) 82(49.53,-2.525) 83(52.07,2.525) 84(52.07,-2.525)
  round 1.19 hole 1.19: Un1(-50.8,0) Un2(50.8,0)
F.SilkS:
  lines w0.254: -52.965,-2.65 -53.45,-2.65 -53.45,2.65 -52.965,2.65 -52.965,3.67 ; -51.175,-2.65 -50.425,-2.65 ; -51.175,2.65 -50.425,2.65 ; -48.635,-2.65 -47.885,-2.65 ; -48.635,2.65 -47.885,2.65 ; -46.095,-2.65 -45.345,-2.65 ; -46.095,2.65 -45.345,2.65 ; -43.555,-2.65 -42.805,-2.65 ; -43.555,2.65 -42.805,2.65 ; -41.015,-2.65 -40.265,-2.65 ; -41.015,2.65 -40.265,2.65 ; -38.475,-2.65 -37.725,-2.65 ; -38.475,2.65 -37.725,2.65 ; -35.935,-2.65 -35.185,-2.65 ; -35.935,2.65 -35.185,2.65 ; -33.395,-2.65 -32.645,-2.65 ; -33.395,2.65 -32.645,2.65 ; -30.855,-2.65 -30.105,-2.65 ; -30.855,2.65 -30.105,2.65 ; -28.315,-2.65 -27.565,-2.65 ; -28.315,2.65 -27.565,2.65 ; -25.775,-2.65 -25.025,-2.65 ; -25.775,2.65 -25.025,2.65 ; -23.235,-2.65 -22.485,-2.65 ; -23.235,2.65 -22.485,2.65 ; -20.695,-2.65 -19.945,-2.65 ; -20.695,2.65 -19.945,2.65 ; -18.155,-2.65 -17.405,-2.65 ; -18.155,2.65 -17.405,2.65 ; -15.615,-2.65 -14.865,-2.65 ; -15.615,2.65 -14.865,2.65 ; -13.075,-2.65 -12.325,-2.65 ; -13.075,2.65 -12.325,2.65 ; -10.535,-2.65 -9.785,-2.65 ; -10.535,2.65 -9.785,2.65 ; -7.995,-2.65 -7.245,-2.65 ; -7.995,2.65 -7.245,2.65 ; -5.455,-2.65 -4.705,-2.65 ; -5.455,2.65 -4.705,2.65 ; -2.915,-2.65 -2.165,-2.65 ; -2.915,2.65 -2.165,2.65 ; -0.375,-2.65 0.375,-2.65 ; -0.375,2.65 0.375,2.65 ; 2.165,-2.65 2.915,-2.65 ; 2.165,2.65 2.915,2.65 ; 4.705,-2.65 5.455,-2.65 ; 4.705,2.65 5.455,2.65 ; 7.245,-2.65 7.995,-2.65 ; 7.245,2.65 7.995,2.65 ; 9.785,-2.65 10.535,-2.65 ; 9.785,2.65 10.535,2.65 ; 12.325,-2.65 13.075,-2.65 ; 12.325,2.65 13.075,2.65 ; 14.865,-2.65 15.615,-2.65 ; 14.865,2.65 15.615,2.65 ; 17.405,-2.65 18.155,-2.65 ; 17.405,2.65 18.155,2.65 ; 19.945,-2.65 20.695,-2.65 ; 19.945,2.65 20.695,2.65 ; 22.485,-2.65 23.235,-2.65 ; 22.485,2.65 23.235,2.65 ; 25.025,-2.65 25.775,-2.65 ; 25.025,2.65 25.775,2.65 ; 27.565,-2.65 28.315,-2.65 ; 27.565,2.65 28.315,2.65 ; 30.105,-2.65 30.855,-2.65 ; 30.105,2.65 30.855,2.65 ; 32.645,-2.65 33.395,-2.65 ; 32.645,2.65 33.395,2.65 ; 35.185,-2.65 35.935,-2.65 ; 35.185,2.65 35.935,2.65 ; 37.725,-2.65 38.475,-2.65 ; 37.725,2.65 38.475,2.65 ; 40.265,-2.65 41.015,-2.65 ; 40.265,2.65 41.015,2.65 ; 42.805,-2.65 43.555,-2.65 ; 42.805,2.65 43.555,2.65 ; 45.345,-2.65 46.095,-2.65 ; 45.345,2.65 46.095,2.65 ; 47.885,-2.65 48.635,-2.65 ; 47.885,2.65 48.635,2.65 ; 50.425,-2.65 51.175,-2.65 ; 50.425,2.65 51.175,2.65 ; 52.965,-2.65 53.45,-2.65 53.45,2.65 52.965,2.65
Top Assembly:
  lines w0.254: -52.57,2.54 -52.07,1.833 -51.57,2.54 ; -53.34,-2.54 53.34,-2.54 53.34,2.54 -53.34,2.54 -53.34,-2.54
  text "'.Designator'" at -4.047,-2.68 h1
Top Courtyard:
  lines w0.254: -53.84,-4.17 53.84,-4.17 53.84,4.17 -53.84,4.17 -53.84,-4.17
Top Designator:
  text ".Designator" at -7.618,-0.508 h1.52

## Samtec_HLE-142-02-xxx-DV_2x42_P2.54mm_Horizontal [mm]
pads (84):
  rect 1.27x2.29 smd: 1(-52.07,2.525) 2(-52.07,-2.525) 3(-49.53,2.525) 4(-49.53,-2.525) 5(-46.99,2.525) 6(-46.99,-2.525) 7(-44.45,2.525) 8(-44.45,-2.525) 9(-41.91,2.525) 10(-41.91,-2.525) 11(-39.37,2.525) 12(-39.37,-2.525) 13(-36.83,2.525) 14(-36.83,-2.525) 15(-34.29,2.525) 16(-34.29,-2.525) 17(-31.75,2.525) 18(-31.75,-2.525) 19(-29.21,2.525) 20(-29.21,-2.525) 21(-26.67,2.525) 22(-26.67,-2.525) 23(-24.13,2.525) 24(-24.13,-2.525) 25(-21.59,2.525) 26(-21.59,-2.525) 27(-19.05,2.525) 28(-19.05,-2.525) 29(-16.51,2.525) 30(-16.51,-2.525) 31(-13.97,2.525) 32(-13.97,-2.525) 33(-11.43,2.525) 34(-11.43,-2.525) 35(-8.89,2.525) 36(-8.89,-2.525) 37(-6.35,2.525) 38(-6.35,-2.525) 39(-3.81,2.525) 40(-3.81,-2.525) 41(-1.27,2.525) 42(-1.27,-2.525) 43(1.27,2.525) 44(1.27,-2.525) 45(3.81,2.525) 46(3.81,-2.525) 47(6.35,2.525) 48(6.35,-2.525) 49(8.89,2.525) 50(8.89,-2.525) 51(11.43,2.525) 52(11.43,-2.525) 53(13.97,2.525) 54(13.97,-2.525) 55(16.51,2.525) 56(16.51,-2.525) 57(19.05,2.525) 58(19.05,-2.525) 59(21.59,2.525) 60(21.59,-2.525) 61(24.13,2.525) 62(24.13,-2.525) 63(26.67,2.525) 64(26.67,-2.525) 65(29.21,2.525) 66(29.21,-2.525) 67(31.75,2.525) 68(31.75,-2.525) 69(34.29,2.525) 70(34.29,-2.525) 71(36.83,2.525) 72(36.83,-2.525) 73(39.37,2.525) 74(39.37,-2.525) 75(41.91,2.525) 76(41.91,-2.525) 77(44.45,2.525) 78(44.45,-2.525) 79(46.99,2.525) 80(46.99,-2.525) 81(49.53,2.525) 82(49.53,-2.525) 83(52.07,2.525) 84(52.07,-2.525)
F.SilkS:
  lines w0.254: -52.965,-2.65 -53.45,-2.65 -53.45,2.65 -52.965,2.65 -52.965,3.67 ; -51.175,-2.65 -50.425,-2.65 ; -51.175,2.65 -50.425,2.65 ; -48.635,-2.65 -47.885,-2.65 ; -48.635,2.65 -47.885,2.65 ; -46.095,-2.65 -45.345,-2.65 ; -46.095,2.65 -45.345,2.65 ; -43.555,-2.65 -42.805,-2.65 ; -43.555,2.65 -42.805,2.65 ; -41.015,-2.65 -40.265,-2.65 ; -41.015,2.65 -40.265,2.65 ; -38.475,-2.65 -37.725,-2.65 ; -38.475,2.65 -37.725,2.65 ; -35.935,-2.65 -35.185,-2.65 ; -35.935,2.65 -35.185,2.65 ; -33.395,-2.65 -32.645,-2.65 ; -33.395,2.65 -32.645,2.65 ; -30.855,-2.65 -30.105,-2.65 ; -30.855,2.65 -30.105,2.65 ; -28.315,-2.65 -27.565,-2.65 ; -28.315,2.65 -27.565,2.65 ; -25.775,-2.65 -25.025,-2.65 ; -25.775,2.65 -25.025,2.65 ; -23.235,-2.65 -22.485,-2.65 ; -23.235,2.65 -22.485,2.65 ; -20.695,-2.65 -19.945,-2.65 ; -20.695,2.65 -19.945,2.65 ; -18.155,-2.65 -17.405,-2.65 ; -18.155,2.65 -17.405,2.65 ; -15.615,-2.65 -14.865,-2.65 ; -15.615,2.65 -14.865,2.65 ; -13.075,-2.65 -12.325,-2.65 ; -13.075,2.65 -12.325,2.65 ; -10.535,-2.65 -9.785,-2.65 ; -10.535,2.65 -9.785,2.65 ; -7.995,-2.65 -7.245,-2.65 ; -7.995,2.65 -7.245,2.65 ; -5.455,-2.65 -4.705,-2.65 ; -5.455,2.65 -4.705,2.65 ; -2.915,-2.65 -2.165,-2.65 ; -2.915,2.65 -2.165,2.65 ; -0.375,-2.65 0.375,-2.65 ; -0.375,2.65 0.375,2.65 ; 2.165,-2.65 2.915,-2.65 ; 2.165,2.65 2.915,2.65 ; 4.705,-2.65 5.455,-2.65 ; 4.705,2.65 5.455,2.65 ; 7.245,-2.65 7.995,-2.65 ; 7.245,2.65 7.995,2.65 ; 9.785,-2.65 10.535,-2.65 ; 9.785,2.65 10.535,2.65 ; 12.325,-2.65 13.075,-2.65 ; 12.325,2.65 13.075,2.65 ; 14.865,-2.65 15.615,-2.65 ; 14.865,2.65 15.615,2.65 ; 17.405,-2.65 18.155,-2.65 ; 17.405,2.65 18.155,2.65 ; 19.945,-2.65 20.695,-2.65 ; 19.945,2.65 20.695,2.65 ; 22.485,-2.65 23.235,-2.65 ; 22.485,2.65 23.235,2.65 ; 25.025,-2.65 25.775,-2.65 ; 25.025,2.65 25.775,2.65 ; 27.565,-2.65 28.315,-2.65 ; 27.565,2.65 28.315,2.65 ; 30.105,-2.65 30.855,-2.65 ; 30.105,2.65 30.855,2.65 ; 32.645,-2.65 33.395,-2.65 ; 32.645,2.65 33.395,2.65 ; 35.185,-2.65 35.935,-2.65 ; 35.185,2.65 35.935,2.65 ; 37.725,-2.65 38.475,-2.65 ; 37.725,2.65 38.475,2.65 ; 40.265,-2.65 41.015,-2.65 ; 40.265,2.65 41.015,2.65 ; 42.805,-2.65 43.555,-2.65 ; 42.805,2.65 43.555,2.65 ; 45.345,-2.65 46.095,-2.65 ; 45.345,2.65 46.095,2.65 ; 47.885,-2.65 48.635,-2.65 ; 47.885,2.65 48.635,2.65 ; 50.425,-2.65 51.175,-2.65 ; 50.425,2.65 51.175,2.65 ; 52.965,-2.65 53.45,-2.65 53.45,2.65 52.965,2.65
Top Assembly:
  lines w0.254: -52.57,2.54 -52.07,1.833 -51.57,2.54 ; -53.34,-2.54 53.34,-2.54 53.34,2.54 -53.34,2.54 -53.34,-2.54
  text "'.Designator'" at -4.047,-2.68 h1
Top Courtyard:
  lines w0.254: -53.84,-4.17 53.84,-4.17 53.84,4.17 -53.84,4.17 -53.84,-4.17
Top Designator:
  text ".Designator" at -7.618,-0.508 h1.52

## Samtec_HLE-143-02-xxx-DV-A_2x43_P2.54mm_Horizontal [mm]
pads (88):
  rect 1.27x2.29 smd: 1(-53.34,2.525) 2(-53.34,-2.525) 3(-50.8,2.525) 4(-50.8,-2.525) 5(-48.26,2.525) 6(-48.26,-2.525) 7(-45.72,2.525) 8(-45.72,-2.525) 9(-43.18,2.525) 10(-43.18,-2.525) 11(-40.64,2.525) 12(-40.64,-2.525) 13(-38.1,2.525) 14(-38.1,-2.525) 15(-35.56,2.525) 16(-35.56,-2.525) 17(-33.02,2.525) 18(-33.02,-2.525) 19(-30.48,2.525) 20(-30.48,-2.525) 21(-27.94,2.525) 22(-27.94,-2.525) 23(-25.4,2.525) 24(-25.4,-2.525) 25(-22.86,2.525) 26(-22.86,-2.525) 27(-20.32,2.525) 28(-20.32,-2.525) 29(-17.78,2.525) 30(-17.78,-2.525) 31(-15.24,2.525) 32(-15.24,-2.525) 33(-12.7,2.525) 34(-12.7,-2.525) 35(-10.16,2.525) 36(-10.16,-2.525) 37(-7.62,2.525) 38(-7.62,-2.525) 39(-5.08,2.525) 40(-5.08,-2.525) 41(-2.54,2.525) 42(-2.54,-2.525) 43(0,2.525) 44(0,-2.525) 45(2.54,2.525) 46(2.54,-2.525) 47(5.08,2.525) 48(5.08,-2.525) 49(7.62,2.525) 50(7.62,-2.525) 51(10.16,2.525) 52(10.16,-2.525) 53(12.7,2.525) 54(12.7,-2.525) 55(15.24,2.525) 56(15.24,-2.525) 57(17.78,2.525) 58(17.78,-2.525) 59(20.32,2.525) 60(20.32,-2.525) 61(22.86,2.525) 62(22.86,-2.525) 63(25.4,2.525) 64(25.4,-2.525) 65(27.94,2.525) 66(27.94,-2.525) 67(30.48,2.525) 68(30.48,-2.525) 69(33.02,2.525) 70(33.02,-2.525) 71(35.56,2.525) 72(35.56,-2.525) 73(38.1,2.525) 74(38.1,-2.525) 75(40.64,2.525) 76(40.64,-2.525) 77(43.18,2.525) 78(43.18,-2.525) 79(45.72,2.525) 80(45.72,-2.525) 81(48.26,2.525) 82(48.26,-2.525) 83(50.8,2.525) 84(50.8,-2.525) 85(53.34,2.525) 86(53.34,-2.525)
  round 1.78 hole 1.78: Un1(-52.07,0) Un2(52.07,0)
F.SilkS:
  lines w0.254: -54.235,-2.65 -54.72,-2.65 -54.72,2.65 -54.235,2.65 -54.235,3.67 ; -52.445,-2.65 -51.695,-2.65 ; -52.445,2.65 -51.695,2.65 ; -49.905,-2.65 -49.155,-2.65 ; -49.905,2.65 -49.155,2.65 ; -47.365,-2.65 -46.615,-2.65 ; -47.365,2.65 -46.615,2.65 ; -44.825,-2.65 -44.075,-2.65 ; -44.825,2.65 -44.075,2.65 ; -42.285,-2.65 -41.535,-2.65 ; -42.285,2.65 -41.535,2.65 ; -39.745,-2.65 -38.995,-2.65 ; -39.745,2.65 -38.995,2.65 ; -37.205,-2.65 -36.455,-2.65 ; -37.205,2.65 -36.455,2.65 ; -34.665,-2.65 -33.915,-2.65 ; -34.665,2.65 -33.915,2.65 ; -32.125,-2.65 -31.375,-2.65 ; -32.125,2.65 -31.375,2.65 ; -29.585,-2.65 -28.835,-2.65 ; -29.585,2.65 -28.835,2.65 ; -27.045,-2.65 -26.295,-2.65 ; -27.045,2.65 -26.295,2.65 ; -24.505,-2.65 -23.755,-2.65 ; -24.505,2.65 -23.755,2.65 ; -21.965,-2.65 -21.215,-2.65 ; -21.965,2.65 -21.215,2.65 ; -19.425,-2.65 -18.675,-2.65 ; -19.425,2.65 -18.675,2.65 ; -16.885,-2.65 -16.135,-2.65 ; -16.885,2.65 -16.135,2.65 ; -14.345,-2.65 -13.595,-2.65 ; -14.345,2.65 -13.595,2.65 ; -11.805,-2.65 -11.055,-2.65 ; -11.805,2.65 -11.055,2.65 ; -9.265,-2.65 -8.515,-2.65 ; -9.265,2.65 -8.515,2.65 ; -6.725,-2.65 -5.975,-2.65 ; -6.725,2.65 -5.975,2.65 ; -4.185,-2.65 -3.435,-2.65 ; -4.185,2.65 -3.435,2.65 ; -1.645,-2.65 -0.895,-2.65 ; -1.645,2.65 -0.895,2.65 ; 0.895,-2.65 1.645,-2.65 ; 0.895,2.65 1.645,2.65 ; 3.435,-2.65 4.185,-2.65 ; 3.435,2.65 4.185,2.65 ; 5.975,-2.65 6.725,-2.65 ; 5.975,2.65 6.725,2.65 ; 8.515,-2.65 9.265,-2.65 ; 8.515,2.65 9.265,2.65 ; 11.055,-2.65 11.805,-2.65 ; 11.055,2.65 11.805,2.65 ; 13.595,-2.65 14.345,-2.65 ; 13.595,2.65 14.345,2.65 ; 16.135,-2.65 16.885,-2.65 ; 16.135,2.65 16.885,2.65 ; 18.675,-2.65 19.425,-2.65 ; 18.675,2.65 19.425,2.65 ; 21.215,-2.65 21.965,-2.65 ; 21.215,2.65 21.965,2.65 ; 23.755,-2.65 24.505,-2.65 ; 23.755,2.65 24.505,2.65 ; 26.295,-2.65 27.045,-2.65 ; 26.295,2.65 27.045,2.65 ; 28.835,-2.65 29.585,-2.65 ; 28.835,2.65 29.585,2.65 ; 31.375,-2.65 32.125,-2.65 ; 31.375,2.65 32.125,2.65 ; 33.915,-2.65 34.665,-2.65 ; 33.915,2.65 34.665,2.65 ; 36.455,-2.65 37.205,-2.65 ; 36.455,2.65 37.205,2.65 ; 38.995,-2.65 39.745,-2.65 ; 38.995,2.65 39.745,2.65 ; 41.535,-2.65 42.285,-2.65 ; 41.535,2.65 42.285,2.65 ; 44.075,-2.65 44.825,-2.65 ; 44.075,2.65 44.825,2.65 ; 46.615,-2.65 47.365,-2.65 ; 46.615,2.65 47.365,2.65 ; 49.155,-2.65 49.905,-2.65 ; 49.155,2.65 49.905,2.65 ; 51.695,-2.65 52.445,-2.65 ; 51.695,2.65 52.445,2.65 ; 54.235,-2.65 54.72,-2.65 54.72,2.65 54.235,2.65
Top Assembly:
  lines w0.254: -53.84,2.54 -53.34,1.833 -52.84,2.54 ; -54.61,-2.54 54.61,-2.54 54.61,2.54 -54.61,2.54 -54.61,-2.54
  text "'.Designator'" at -4.047,-2.68 h1
Top Courtyard:
  lines w0.254: -55.11,-4.17 55.11,-4.17 55.11,4.17 -55.11,4.17 -55.11,-4.17
Top Designator:
  text ".Designator" at -7.618,-0.508 h1.52

## Samtec_HLE-143-02-xxx-DV-BE-A_2x43_P2.54mm_Horizontal [mm]
pads (174):
  rect 1.27x1.68 smd: 1(-53.34,2.72) 2(-53.34,-2.72) 3(-50.8,2.72) 4(-50.8,-2.72) 5(-48.26,2.72) 6(-48.26,-2.72) 7(-45.72,2.72) 8(-45.72,-2.72) 9(-43.18,2.72) 10(-43.18,-2.72) 11(-40.64,2.72) 12(-40.64,-2.72) 13(-38.1,2.72) 14(-38.1,-2.72) 15(-35.56,2.72) 16(-35.56,-2.72) 17(-33.02,2.72) 18(-33.02,-2.72) 19(-30.48,2.72) 20(-30.48,-2.72) 21(-27.94,2.72) 22(-27.94,-2.72) 23(-25.4,2.72) 24(-25.4,-2.72) 25(-22.86,2.72) 26(-22.86,-2.72) 27(-20.32,2.72) 28(-20.32,-2.72) 29(-17.78,2.72) 30(-17.78,-2.72) 31(-15.24,2.72) 32(-15.24,-2.72) 33(-12.7,2.72) 34(-12.7,-2.72) 35(-10.16,2.72) 36(-10.16,-2.72) 37(-7.62,2.72) 38(-7.62,-2.72) 39(-5.08,2.72) 40(-5.08,-2.72) 41(-2.54,2.72) 42(-2.54,-2.72) 43(0,2.72) 44(0,-2.72) 45(2.54,2.72) 46(2.54,-2.72) 47(5.08,2.72) 48(5.08,-2.72) 49(7.62,2.72) 50(7.62,-2.72) 51(10.16,2.72) 52(10.16,-2.72) 53(12.7,2.72) 54(12.7,-2.72) 55(15.24,2.72) 56(15.24,-2.72) 57(17.78,2.72) 58(17.78,-2.72) 59(20.32,2.72) 60(20.32,-2.72) 61(22.86,2.72) 62(22.86,-2.72) 63(25.4,2.72) 64(25.4,-2.72) 65(27.94,2.72) 66(27.94,-2.72) 67(30.48,2.72) 68(30.48,-2.72) 69(33.02,2.72) 70(33.02,-2.72) 71(35.56,2.72) 72(35.56,-2.72) 73(38.1,2.72) 74(38.1,-2.72) 75(40.64,2.72) 76(40.64,-2.72) 77(43.18,2.72) 78(43.18,-2.72) 79(45.72,2.72) 80(45.72,-2.72) 81(48.26,2.72) 82(48.26,-2.72) 83(50.8,2.72) 84(50.8,-2.72) 85(53.34,2.72) 86(53.34,-2.72)
  round 0.97 hole 0.97: Un1(-53.34,1.27) Un2(-53.34,-1.27) Un4(-50.8,1.27) Un5(-50.8,-1.27) Un6(-48.26,1.27) Un7(-48.26,-1.27) Un8(-45.72,1.27) Un9(-45.72,-1.27) Un10(-43.18,1.27) Un11(-43.18,-1.27) Un12(-40.64,1.27) Un13(-40.64,-1.27) Un14(-38.1,1.27) Un15(-38.1,-1.27) Un16(-35.56,1.27) Un17(-35.56,-1.27) Un18(-33.02,1.27) Un19(-33.02,-1.27) Un20(-30.48,1.27) Un21(-30.48,-1.27) Un22(-27.94,1.27) Un23(-27.94,-1.27) Un24(-25.4,1.27) Un25(-25.4,-1.27) Un26(-22.86,1.27) Un27(-22.86,-1.27) Un28(-20.32,1.27) Un29(-20.32,-1.27) Un30(-17.78,1.27) Un31(-17.78,-1.27) Un32(-15.24,1.27) Un33(-15.24,-1.27) Un34(-12.7,1.27) Un35(-12.7,-1.27) Un36(-10.16,1.27) Un37(-10.16,-1.27) Un38(-7.62,1.27) Un39(-7.62,-1.27) Un40(-5.08,1.27) Un41(-5.08,-1.27) Un42(-2.54,1.27) Un43(-2.54,-1.27) Un44(0,1.27) Un45(0,-1.27) Un46(2.54,1.27) Un47(2.54,-1.27) Un48(5.08,1.27) Un49(5.08,-1.27) Un50(7.62,1.27) Un51(7.62,-1.27) Un52(10.16,1.27) Un53(10.16,-1.27) Un54(12.7,1.27) Un55(12.7,-1.27) Un56(15.24,1.27) Un57(15.24,-1.27) Un58(17.78,1.27) Un59(17.78,-1.27) Un60(20.32,1.27) Un61(20.32,-1.27) Un62(22.86,1.27) Un63(22.86,-1.27) Un64(25.4,1.27) Un65(25.4,-1.27) Un66(27.94,1.27) Un67(27.94,-1.27) Un68(30.48,1.27) Un69(30.48,-1.27) Un70(33.02,1.27) Un71(33.02,-1.27) Un72(35.56,1.27) Un73(35.56,-1.27) Un74(38.1,1.27) Un75(38.1,-1.27) Un76(40.64,1.27) Un77(40.64,-1.27) Un78(43.18,1.27) Un79(43.18,-1.27) Un80(45.72,1.27) Un81(45.72,-1.27) Un82(48.26,1.27) Un83(48.26,-1.27) Un84(50.8,1.27) Un85(50.8,-1.27) Un87(53.34,1.27) Un88(53.34,-1.27)
  round 1.78 hole 1.78: Un3(-52.07,0) Un86(52.07,0)
F.SilkS:
  lines w0.254: -54.235,-2.65 -54.72,-2.65 -54.72,2.65 -54.235,2.65 -54.235,3.56 ; -52.445,-2.65 -51.695,-2.65 ; -52.445,2.65 -51.695,2.65 ; -49.905,-2.65 -49.155,-2.65 ; -49.905,2.65 -49.155,2.65 ; -47.365,-2.65 -46.615,-2.65 ; -47.365,2.65 -46.615,2.65 ; -44.825,-2.65 -44.075,-2.65 ; -44.825,2.65 -44.075,2.65 ; -42.285,-2.65 -41.535,-2.65 ; -42.285,2.65 -41.535,2.65 ; -39.745,-2.65 -38.995,-2.65 ; -39.745,2.65 -38.995,2.65 ; -37.205,-2.65 -36.455,-2.65 ; -37.205,2.65 -36.455,2.65 ; -34.665,-2.65 -33.915,-2.65 ; -34.665,2.65 -33.915,2.65 ; -32.125,-2.65 -31.375,-2.65 ; -32.125,2.65 -31.375,2.65 ; -29.585,-2.65 -28.835,-2.65 ; -29.585,2.65 -28.835,2.65 ; -27.045,-2.65 -26.295,-2.65 ; -27.045,2.65 -26.295,2.65 ; -24.505,-2.65 -23.755,-2.65 ; -24.505,2.65 -23.755,2.65 ; -21.965,-2.65 -21.215,-2.65 ; -21.965,2.65 -21.215,2.65 ; -19.425,-2.65 -18.675,-2.65 ; -19.425,2.65 -18.675,2.65 ; -16.885,-2.65 -16.135,-2.65 ; -16.885,2.65 -16.135,2.65 ; -14.345,-2.65 -13.595,-2.65 ; -14.345,2.65 -13.595,2.65 ; -11.805,-2.65 -11.055,-2.65 ; -11.805,2.65 -11.055,2.65 ; -9.265,-2.65 -8.515,-2.65 ; -9.265,2.65 -8.515,2.65 ; -6.725,-2.65 -5.975,-2.65 ; -6.725,2.65 -5.975,2.65 ; -4.185,-2.65 -3.435,-2.65 ; -4.185,2.65 -3.435,2.65 ; -1.645,-2.65 -0.895,-2.65 ; -1.645,2.65 -0.895,2.65 ; 0.895,-2.65 1.645,-2.65 ; 0.895,2.65 1.645,2.65 ; 3.435,-2.65 4.185,-2.65 ; 3.435,2.65 4.185,2.65 ; 5.975,-2.65 6.725,-2.65 ; 5.975,2.65 6.725,2.65 ; 8.515,-2.65 9.265,-2.65 ; 8.515,2.65 9.265,2.65 ; 11.055,-2.65 11.805,-2.65 ; 11.055,2.65 11.805,2.65 ; 13.595,-2.65 14.345,-2.65 ; 13.595,2.65 14.345,2.65 ; 16.135,-2.65 16.885,-2.65 ; 16.135,2.65 16.885,2.65 ; 18.675,-2.65 19.425,-2.65 ; 18.675,2.65 19.425,2.65 ; 21.215,-2.65 21.965,-2.65 ; 21.215,2.65 21.965,2.65 ; 23.755,-2.65 24.505,-2.65 ; 23.755,2.65 24.505,2.65 ; 26.295,-2.65 27.045,-2.65 ; 26.295,2.65 27.045,2.65 ; 28.835,-2.65 29.585,-2.65 ; 28.835,2.65 29.585,2.65 ; 31.375,-2.65 32.125,-2.65 ; 31.375,2.65 32.125,2.65 ; 33.915,-2.65 34.665,-2.65 ; 33.915,2.65 34.665,2.65 ; 36.455,-2.65 37.205,-2.65 ; 36.455,2.65 37.205,2.65 ; 38.995,-2.65 39.745,-2.65 ; 38.995,2.65 39.745,2.65 ; 41.535,-2.65 42.285,-2.65 ; 41.535,2.65 42.285,2.65 ; 44.075,-2.65 44.825,-2.65 ; 44.075,2.65 44.825,2.65 ; 46.615,-2.65 47.365,-2.65 ; 46.615,2.65 47.365,2.65 ; 49.155,-2.65 49.905,-2.65 ; 49.155,2.65 49.905,2.65 ; 51.695,-2.65 52.445,-2.65 ; 51.695,2.65 52.445,2.65 ; 54.235,-2.65 54.72,-2.65 54.72,2.65 54.235,2.65
Top Assembly:
  lines w0.254: -53.84,2.54 -53.34,1.833 -52.84,2.54 ; -54.61,-2.54 54.61,-2.54 54.61,2.54 -54.61,2.54 -54.61,-2.54
  text "'.Designator'" at -4.047,-2.68 h1
Top Courtyard:
  lines w0.254: -55.11,-4.07 55.11,-4.07 55.11,4.07 -55.11,4.07 -55.11,-4.07
Top Designator:
  text ".Designator" at -7.618,-0.508 h1.52